# EAGLE library part 8WAYJUMPER (library ics)
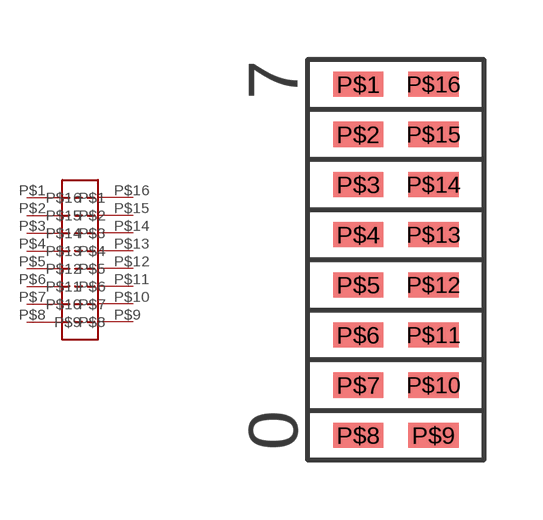
[diagram p2: symbol with the pads of 8WAYJUMPER; footprint 8WAYJUMPER]

Designator prefix -

## 8WAYJUMPER  [8WAYJUMPER]
P$1  P$1
P$2  P$2
P$3  P$3
P$4  P$4
P$5  P$5
P$6  P$6
P$7  P$7
P$8  P$8
P$9  P$9
P$10  P$10
P$11  P$11
P$12  P$12
P$13  P$13
P$14  P$14
P$15  P$15
P$16  P$16

## Footprint 8WAYJUMPER (pad centres in mm)
smd 1.27 x 0.635: P$1 -1.27,4.445; P$2 -1.27,3.175; P$3 -1.27,1.905; P$4 -1.27,0.635; P$5 -1.27,-0.635; P$6 -1.27,-1.905; P$7 -1.27,-3.175; P$8 -1.27,-4.445; P$9 0.635,-4.445; P$10 0.635,-3.175; P$11 0.635,-1.905; P$12 0.635,-0.635; P$13 0.635,0.635; P$14 0.635,1.905; P$15 0.635,3.175; P$16 0.635,4.445